# EAGLE library part DP83848J (library kwoo)
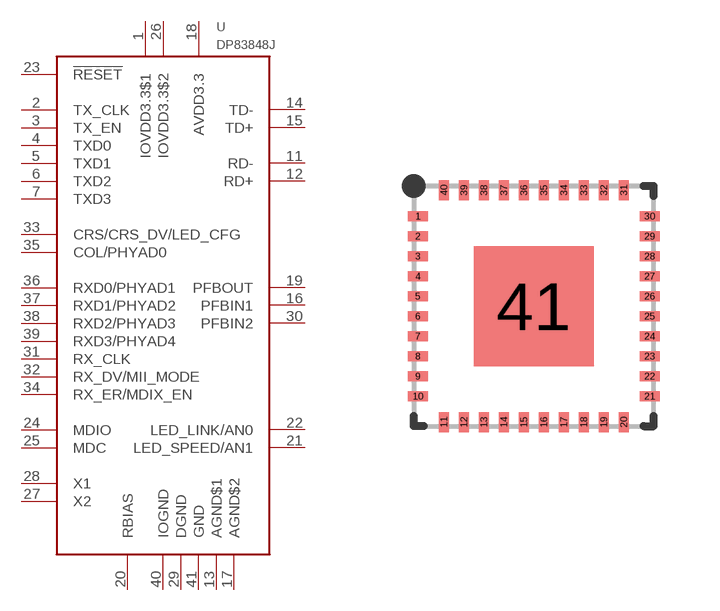
[diagram p9: symbol with the pads of 40-LLP; footprint 40-LLP]

Designator prefix -

## DP83848J  [40-LLP]
1  IOVDD3.3$1
2  TX_CLK
3  TX_EN
4  TXD0
5  TXD1
6  TXD2
7  TXD3
11  RD-
12  RD+
13  AGND$1
14  TD-
15  TD+
16  PFBIN1
17  AGND$2
18  AVDD3.3
19  PFBOUT
20  RBIAS
21  LED_SPEED/AN1
22  LED_LINK/AN0
23  !RESET
24  MDIO
25  MDC
26  IOVDD3.3$2
27  X2
28  X1
29  DGND
30  PFBIN2
31  RX_CLK
32  RX_DV/MII_MODE
33  CRS/CRS_DV/LED_CFG
34  RX_ER/MDIX_EN
35  COL/PHYAD0
36  RXD0/PHYAD1
37  RXD1/PHYAD2
38  RXD2/PHYAD3
39  RXD3/PHYAD4
40  IOGND
41  GND

## Footprint 40-LLP (pad centres in mm)
smd 0.5 x 0.25: 1 -2.9,2.25; 2 -2.9,1.75; 3 -2.9,1.25; 4 -2.9,0.75; 5 -2.9,0.25; 6 -2.9,-0.25; 7 -2.9,-0.75; 8 -2.9,-1.25; 9 -2.9,-1.75; 10 -2.9,-2.25; 21 2.9,-2.25; 22 2.9,-1.75; 23 2.9,-1.25; 24 2.9,-0.75; 25 2.9,-0.25; 26 2.9,0.25; 27 2.9,0.75; 28 2.9,1.25; 29 2.9,1.75; 30 2.9,2.25
smd 0.25 x 0.5: 11 -2.25,-2.9; 12 -1.75,-2.9; 13 -1.25,-2.9; 14 -0.75,-2.9; 15 -0.25,-2.9; 16 0.25,-2.9; 17 0.75,-2.9; 18 1.25,-2.9; 19 1.75,-2.9; 20 2.25,-2.9; 31 2.25,2.9; 32 1.75,2.9; 33 1.25,2.9; 34 0.75,2.9; 35 0.25,2.9; 36 -0.25,2.9; 37 -0.75,2.9; 38 -1.25,2.9; 39 -1.75,2.9; 40 -2.25,2.9
smd 3 x 3: 41 0,0